# EAGLE library part LM324DT (library IntegratedLib)
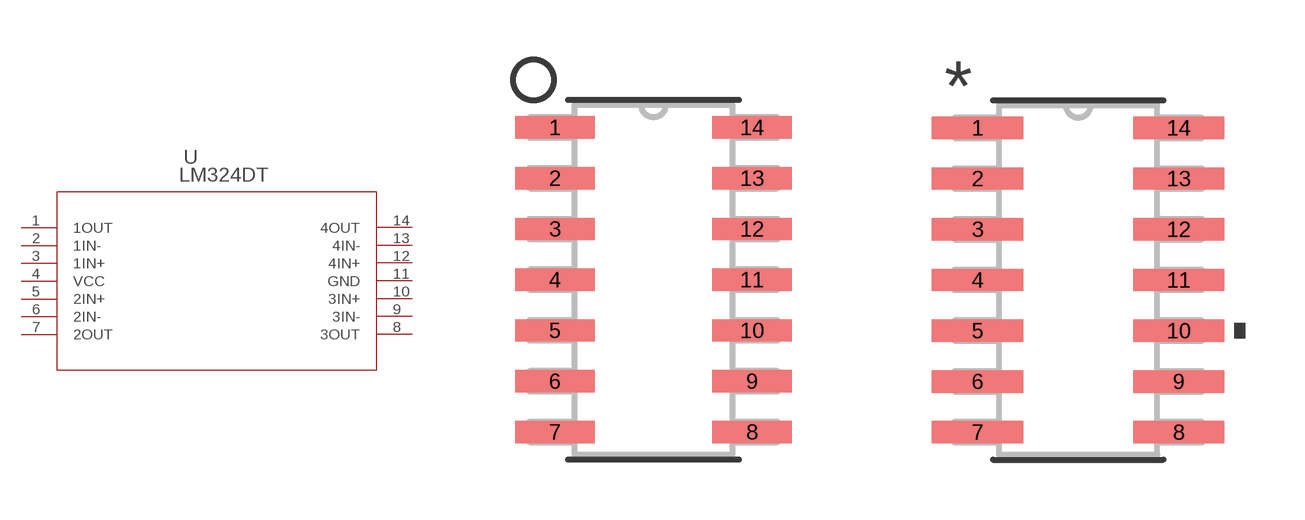
[diagram p52: symbol with the pads of D14_TEX; footprints D14_TEX, D14_TEX-M]

Designator prefix U

## LM324DT (COPYRIGHT: Copyright (C) 2021 Ultra Librarian. All rights reserved.; DIGI-KEY_PART_NUMBER_1: 497-1580-1-ND; DIGI-KEY_PART_NUMBER_2: 497-1580-2-ND; DIGI-KEY_PART_NUMBER_3: 497-1580-6-ND; DIGI-KEY_PART_NUMBER_4: LM324DTRS-ND; MANUFACTURER_PART_NUMBER: LM324DT; MFR_NAME: Texas Instruments)  [D14_TEX]
1  1OUT  out
2  1IN-  in
3  1IN+  in
4  VCC  pwr
5  2IN+  in
6  2IN-  in
7  2OUT  out
8  3OUT  out
9  3IN-  in
10  3IN+  in
11  GND  pwr
12  4IN+  in
13  4IN-  in
14  4OUT  out

## LM324DTD14_TEX-M (COPYRIGHT: Copyright (C) 2021 Ultra Librarian. All rights reserved.; DIGI-KEY_PART_NUMBER_1: 497-1580-1-ND; DIGI-KEY_PART_NUMBER_2: 497-1580-2-ND; DIGI-KEY_PART_NUMBER_3: 497-1580-6-ND; DIGI-KEY_PART_NUMBER_4: LM324DTRS-ND; MANUFACTURER_PART_NUMBER: LM324DT; MFR_NAME: Texas Instruments)  [D14_TEX-M]
Pads as for D14_TEX

## LM324DTD14_TEX-L (COPYRIGHT: Copyright (C) 2021 Ultra Librarian. All rights reserved.; DIGI-KEY_PART_NUMBER_1: 497-1580-1-ND; DIGI-KEY_PART_NUMBER_2: 497-1580-2-ND; DIGI-KEY_PART_NUMBER_3: 497-1580-6-ND; DIGI-KEY_PART_NUMBER_4: LM324DTRS-ND; MANUFACTURER_PART_NUMBER: LM324DT; MFR_NAME: Texas Instruments)  [D14_TEX-L]
Pads as for D14_TEX

## Footprint D14_TEX (pad centres in mm)
smd 1.981 x 0.559: 1 -2.464,3.81; 2 -2.464,2.54; 3 -2.464,1.27; 4 -2.464,0; 5 -2.464,-1.27; 6 -2.464,-2.54; 7 -2.464,-3.81; 8 2.464,-3.81; 9 2.464,-2.54; 10 2.464,-1.27; 11 2.464,0; 12 2.464,1.27; 13 2.464,2.54; 14 2.464,3.81

## Footprint D14_TEX-M (pad centres in mm)
smd 2.286 x 0.559: 1 -2.515,3.81; 2 -2.515,2.54; 3 -2.515,1.27; 4 -2.515,0; 5 -2.515,-1.27; 6 -2.515,-2.54; 7 -2.515,-3.81; 8 2.515,-3.81; 9 2.515,-2.54; 10 2.515,-1.27; 11 2.515,0; 12 2.515,1.27; 13 2.515,2.54; 14 2.515,3.81

## Footprint D14_TEX-L (pad centres in mm)
smd 1.676 x 0.508: 1 -2.413,3.81; 2 -2.413,2.54; 3 -2.413,1.27; 4 -2.413,0; 5 -2.413,-1.27; 6 -2.413,-2.54; 7 -2.413,-3.81; 8 2.413,-3.81; 9 2.413,-2.54; 10 2.413,-1.27; 11 2.413,0; 12 2.413,1.27; 13 2.413,2.54; 14 2.413,3.81